# EAGLE library part STM32L052K (library X893)
STM32L052K6/8 <http://www.terraelectronica.ru/images/images_new/STM32L052x8.pdf>
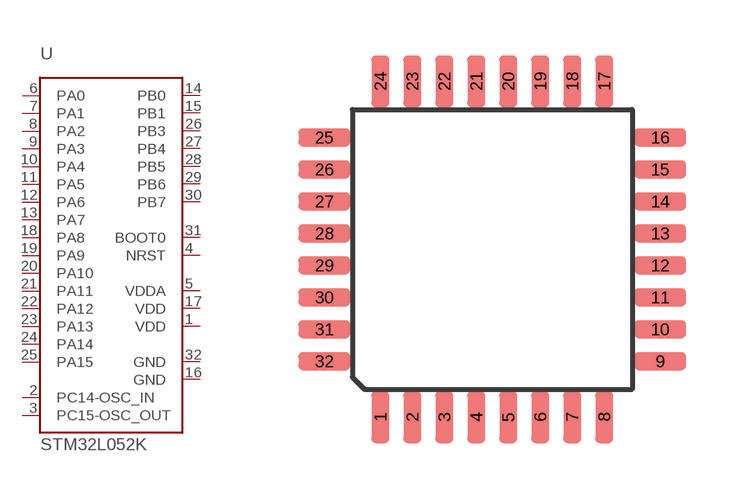
[diagram p242: symbol with the pads of LQFP32; footprint LQFP32]

Designator prefix -

## STM32L052K-LQFP32  [LQFP32]
1  VDD  pwr
2  PC14-OSC_IN
3  PC15-OSC_OUT
4  NRST
5  VDDA  pwr
6  PA0
7  PA1
8  PA2
9  PA3
10  PA4
11  PA5
12  PA6
13  PA7
14  PB0
15  PB1
16  GND  pwr
17  VDD  pwr
18  PA8
19  PA9
20  PA10
21  PA11
22  PA12
23  PA13
24  PA14
25  PA15
26  PB3
27  PB4
28  PB5
29  PB6
30  PB7
31  BOOT0
32  GND  pwr

## Footprint LQFP32 (pad centres in mm)
LQFP-32 package 7x7 mm case, 0.8 mm lead pitch
smd 0.45 x 1.3: 1 -2.8,-4.2; 2 -2,-4.2; 3 -1.2,-4.2; 4 -0.4,-4.2; 5 0.4,-4.2; 6 1.2,-4.2; 7 2,-4.2; 8 2.8,-4.2; 17 2.8,4.2; 18 2,4.2; 19 1.2,4.2; 20 0.4,4.2; 21 -0.4,4.2; 22 -1.2,4.2; 23 -2,4.2; 24 -2.8,4.2
smd 1.3 x 0.45: 9 4.2,-2.8; 10 4.2,-2; 11 4.2,-1.2; 12 4.2,-0.4; 13 4.2,0.4; 14 4.2,1.2; 15 4.2,2; 16 4.2,2.8; 25 -4.2,2.8; 26 -4.2,2; 27 -4.2,1.2; 28 -4.2,0.4; 29 -4.2,-0.4; 30 -4.2,-1.2; 31 -4.2,-2; 32 -4.2,-2.8